# EAGLE library part MX25L512MC-12G (library Kunosheru)
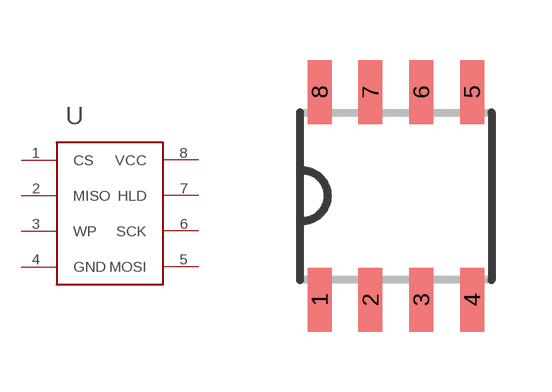
[diagram p13: symbol with the pads of SOP8; footprint SOP8]

Designator prefix -

## MX25L512MC-12G  [SOP8]
1  CS
2  MISO
3  WP
4  GND
5  MOSI
6  SCK
7  HLD
8  VCC

## Footprint SOP8 (pad centres in mm)
SOP8 Source: http://www.rohm.com/products/databook/motor/pdf/bd623x_series-e.pdf
smd 0.6 x 1.6: 1 -1.905,-2.6; 2 -0.635,-2.6; 3 0.635,-2.6; 4 1.905,-2.6; 5 1.905,2.6; 6 0.635,2.6; 7 -0.635,2.6; 8 -1.905,2.6